# EAGLE library part 6270XX21721_62703021721 (library WR-BHD)
WR-BHD 1.27 mm Male Characteristics Working Voltage: 250 V Operating Temperature : -40°C up to 105°C UL approval: E323964 UL94-V0 Applications Industrial Production lines Details see: www.we-online.com/components/products/WTB_WR_BHD_BOX_HEADER_1_27MM_MALE Updated by Ella 2026-09-16 2026 (C) Würth Elektronik
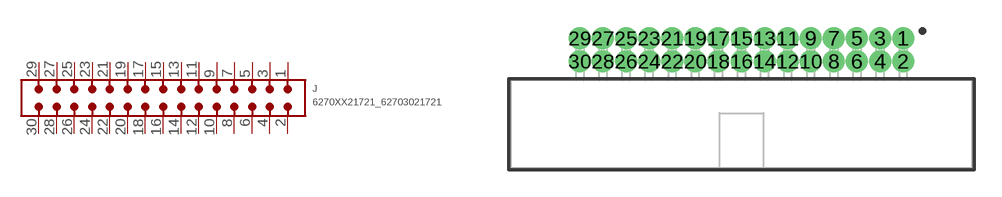
[diagram p50: symbol with the pads of 62703021721; footprint 62703021721]

Designator prefix J

## 6270XX21721_62703021721 (CATEGORY: Connectors; DATASHEET: https://www.we-online.com/redexpert/spec/62703021721?ae; GENDER: Male; LENGTH: 25.4 mm; MANUFACTURER: Würth Elektronik; MOUNT: THT; MPN: 62703021721; OPERATING_TEMPERATURE: -40 °C up to +105 °C; PACKAGING: Tube; PINS: 30; PITCH: 1.27mm; RATED_CURRENT: 1 A; SIZE: THT Angled; TYPE: Angled; VALUE: 62703021721)  [62703021721]
1  1  pas
2  2  pas
3  3  pas
4  4  pas
5  5  pas
6  6  pas
7  7  pas
8  8  pas
9  9  pas
10  10  pas
11  11  pas
12  12  pas
13  13  pas
14  14  pas
15  15  pas
16  16  pas
17  17  pas
18  18  pas
19  19  pas
20  20  pas
21  21  pas
22  22  pas
23  23  pas
24  24  pas
25  25  pas
26  26  pas
27  27  pas
28  28  pas
29  29  pas
30  30  pas

## Footprint 62703021721 (pad centres in mm)
WR-BHD Wire-to-Board Connectors, 1.27mm, Male, THT Angled, 30pins
drill 0.7 pad 1.05: 1 8.89,4.72; 2 8.89,3.45; 3 7.62,4.72; 4 7.62,3.45; 5 6.35,4.72; 6 6.35,3.45; 7 5.08,4.72; 8 5.08,3.45; 9 3.81,4.72; 10 3.81,3.45; 11 2.54,4.72; 12 2.54,3.45; 13 1.27,4.72; 14 1.27,3.45; 15 0,4.72; 16 0,3.45; 17 -1.27,4.72; 18 -1.27,3.45; 19 -2.54,4.72; 20 -2.54,3.45; 21 -3.81,4.72; 22 -3.81,3.45; 23 -5.08,4.72; 24 -5.08,3.45; 25 -6.35,4.72; 26 -6.35,3.45; 27 -7.62,4.72; 28 -7.62,3.45; 29 -8.89,4.72; 30 -8.89,3.45